# Altium schematic symbol library AMS1117-3.3.SchLib: 1 symbol
Pins are listed as number, name and electrical type; pins without a type are passive.

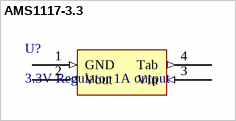
[diagram p0: symbol AMS1117-3.3]

## AMS1117-3.3
designator U?, comment 3.3V Regulator 1A output
footprint SOT229P700X180-4N (SOT223, 4-Leads, Body 6.50x7.01mm (avg), Pitch 2.29mm, IPC Medium Density)
pins: 1 GND (in), 2 Vout (out), 3 Vin (in), 4 Tab (out)